# Altium integrated library Silicon Labs Clocks and Oscillators.IntLib: 678 symbols (part 26 of 45)
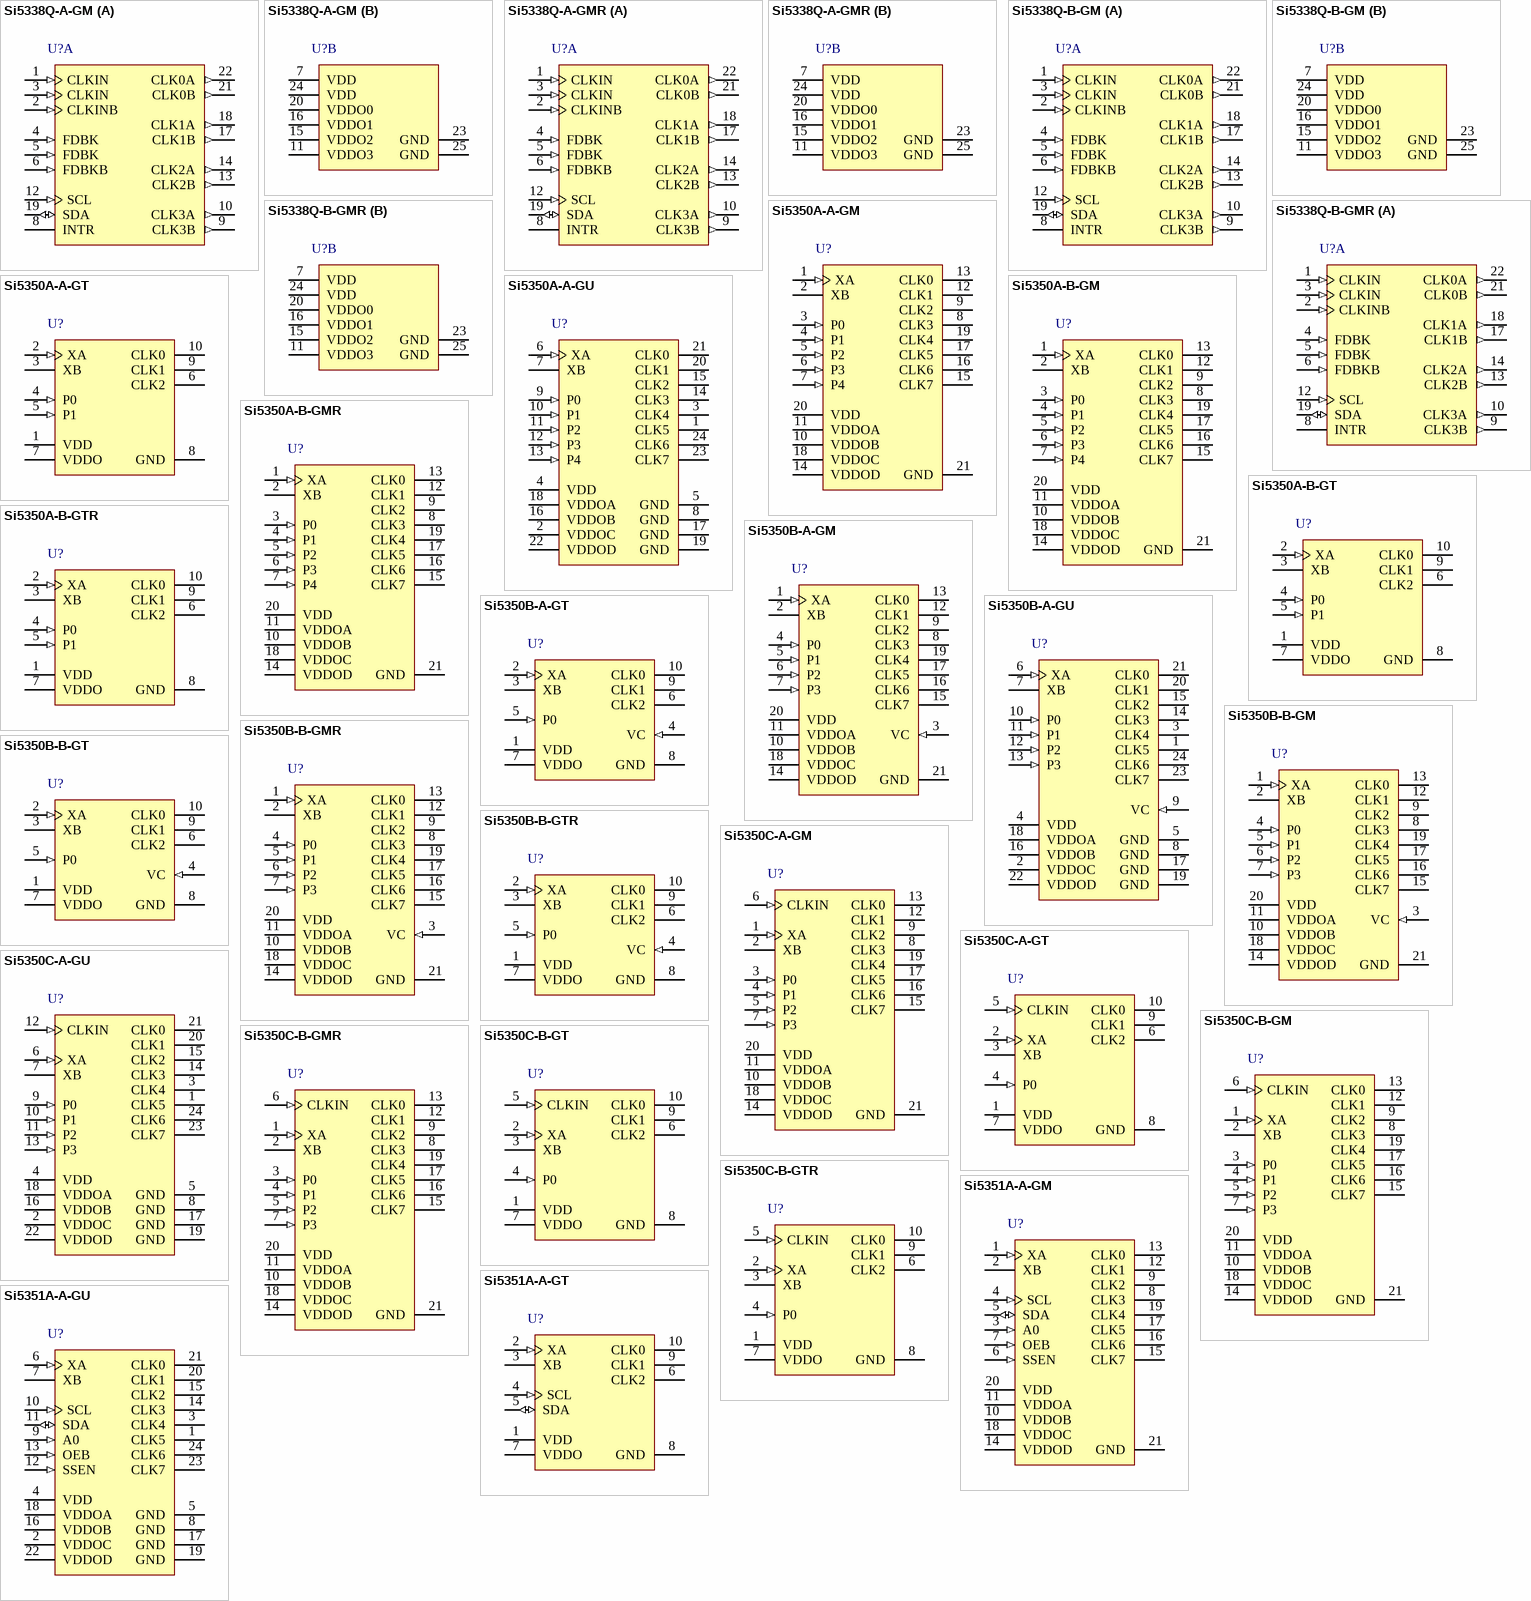
[diagram p69: symbols Si5338Q-A-GM to Si5351A-A-GU]

## Si5350C-A-GT
designator U?
Factory-Programmable Any-Frequency CMOS Clock Generator, 2.5 / 3.3 V, 0.008 to 160 MHz Output, -40 to 85 degC, 10-pin SOP; Manufacturer: Silicon Labs; PartNumber: Si5350C-A-GT; Output Format: LVCMOS; Reference Inputs: 2; VDD: 2.5 V; 3.3 V; Sub-Family: Clock Generators; DatasheetVersion: Rev. 0.9; PackageReference: MSOP-10; PackageDescription: 10-Pin Mini Small Outline Package, Body 3 x 3 mm, Pitch 0.5 mm; Supplier 1: Digi-Key; Supplier Part Number 1: SI5350C-A-GT-ND; Supplier 2: Mouser; Supplier Part Number 2: 634-SI5350C-A-GT; Output Frequency (MHz): 0.008 to 160; Mounting Technology: Surface Mount; Code_JEDEC: MO-187; Code_IPC: J-STD-020; ComponentLink1Description: Manufacturer URL; ComponentLink1URL: http://www.silabs.com/; ComponentLink2Description: Datasheet; ComponentLink2URL: http://www.silabs.com/Support%20Documents/TechnicalDocs/Si5350A.pdf; ComponentLink3Description: Package Specification; ComponentLink3URL: http://www.silabs.com/Support Documents/TechnicalDocs/C8051T60x.pdf
footprint SLAB-MSOP-10_N (SOP, 10-Leads, Body 3x3mm, Pitch 0.5mm, IPC Medium Density)
footprint SLAB-MSOP-10_L (SOP, 10-Leads, Body 3x3mm, Pitch 0.5mm, IPC High Density)
footprint SLAB-MSOP-10_M (SOP, 10-Leads, Body 3x3mm, Pitch 0.5mm, IPC Low Density)
pins: 1 VDD (power) "Core voltage supply pin. See 4.5.2", 2 XA (in) "Input pin for external XTAL", 3 XB "Input pin for external XTAL", 4 P0 (in) "User configurable input pin 0. See 4.5.5", 5 CLKIN (in) "External reference clock input", 6 CLK2 (hiz) "Output clock 2", 7 VDDO (power) "Output voltage supply pin for CLK0, CLK1, and CLK2. See 4.5.2", 8 GND (power) "Ground", 9 CLK1 (hiz) "Output clock 1", 10 CLK0 (hiz) "Output clock 0"

## Si5350C-A-GU
designator U?
Factory-Programmable Any-Frequency CMOS Clock Generator, 2.5 / 3.3 V, 0.008 to 160 MHz Output, -40 to 85 degC, 20-pin SOP; Manufacturer: Silicon Labs; PartNumber: Si5350C-A-GU; Output Format: LVCMOS; Reference Inputs: 2; VDD: 2.5 V; 3.3 V; Sub-Family: Clock Generators; DatasheetVersion: Rev. 0.9; PackageReference: QSOP-24; PackageDescription: 24-Pin Quarter-Size Small-Outline Package, Body 8.65 x 3.9 mm, Pitch 0.635 mm; Supplier 1: Digi-Key; Supplier Part Number 1: SI5350C-A-GU-ND; Supplier 2: Mouser; Supplier Part Number 2: 634-SI5350C-A-GU; Output Frequency (MHz): 0.008 to 160; Mounting Technology: Surface Mount; Code_JEDEC: MO-147; Code_IPC: J-STD-020; ComponentLink1Description: Manufacturer URL; ComponentLink1URL: http://www.silabs.com/; ComponentLink2Description: Datasheet; ComponentLink2URL: http://www.silabs.com/Support%20Documents/TechnicalDocs/Si5350A.pdf; ComponentLink3Description: Package Specification; ComponentLink3URL: http://www.silabs.com/Support%20Documents/TechnicalDocs/C8051F99x.pdf
footprint SLAB-QSOP-24_N (SOP, 24-Leads, Body 8.65x3.9mm, Pitch 0.635mm, IPC Medium Density)
footprint SLAB-QSOP-24_L (SOP, 24-Leads, Body 8.65x3.9mm, Pitch 0.635mm, IPC High Density)
footprint SLAB-QSOP-24_M (SOP, 24-Leads, Body 8.65x3.9mm, Pitch 0.635mm, IPC Low Density)
pins: 1 CLK5 (hiz) "Output clock 5", 2 VDDOC (power) "Output voltage supply pin for CLK4 and CLK5. See 4.5.2", 3 CLK4 (hiz) "Output clock 4", 4 VDD (power) "Core voltage supply pin. See 4.5.2", 5 GND (power) "Ground", 6 XA (in) "Input pin for external XTAL", 7 XB "Input pin for external XTAL", 8 GND (power) "Ground", 9 P0 (in) "User configurable input pin 0. See 4.5.5", 10 P1 (in) "User configurable input pin 1. See 4.5.5", 11 P2 (in) "User configurable input pin 2. See 4.5.5", 12 CLKIN (in) "External reference clock input", 13 P3 (in) "User configurable input pin 3. See 4.5.5", 14 CLK3 (hiz) "Output clock 3", 15 CLK2 (hiz) "Output clock 2", 16 VDDOB (power) "Output voltage supply pin for CLK2 and CLK3. See 4.5.2", 17 GND (power) "Ground", 18 VDDOA (power) "Output voltage supply pin for CLK0 and CLK1. See 4.5.2", 19 GND (power) "Ground", 20 CLK1 (hiz) "Output clock 1", 21 CLK0 (hiz) "Output clock 0", 22 VDDOD (power) "Output voltage supply pin for CLK6 and CLK7. See 4.5.2", 23 CLK7 (hiz) "Output clock 7", 24 CLK6 (hiz) "Output clock 6"

## Si5350C-B-GM
designator U?
Factory-Programmable Any-Frequency CMOS Clock Generator + PLL, 2.5 / 3.3 V, 0.008 to 160 MHz Output, -40 to 85 degC, 20-pin QFN; Manufacturer: Silicon Labs; PartNumber: Si5350C-B-GM; Output Format: LVCMOS; Reference Inputs: 2; VDD: 2.5 V; 3.3 V; Sub-Family: Clock Generators; DatasheetVersion: Rev. 0.75; PackageReference: QFN-20; PackageDescription: 20-Pin Quad-Flat No-Leads Package, Body 4 x 4 mm, Pitch 0.5 mm; Output Frequency (MHz): 0.008 to 160; Mounting Technology: Surface Mount; Code_JEDEC: MO-220; Code_IPC: J-STD-020; ComponentLink1Description: Manufacturer URL; ComponentLink1URL: http://www.silabs.com/; ComponentLink2Description: Datasheet; ComponentLink2URL: http://www.silabs.com/Support%20Documents/TechnicalDocs/Si5350C-B.pdf; ComponentLink3Description: Package Specification; ComponentLink3URL: http://www.silabs.com/Support%20Documents/TechnicalDocs/Si5351.pdf
footprint SLAB-QFN-20-2700x2700TP_A_N (QFN, 20-Leads, Body 4x4mm, Pitch 0.5mm, Thermal Pad 2.7x2.7mm, IPC Medium Density)
footprint SLAB-QFN-20-2700x2700TP_A_L (QFN, 20-Leads, Body 4x4mm, Pitch 0.5mm, Thermal Pad 2.7x2.7mm, IPC High Density)
footprint SLAB-QFN-20-2700x2700TP_A_M (QFN, 20-Leads, Body 4x4mm, Pitch 0.5mm, Thermal Pad 2.7x2.7mm, IPC Low Density)
pins: 1 XA (in) "Input pin for external XTAL", 2 XB "Input pin for external XTAL", 3 P0 (in) "User configurable input pin 0. See 4.5.5", 4 P1 (in) "User configurable input pin 1. See 4.5.5", 5 P2 (in) "User configurable input pin 2. See 4.5.5", 6 CLKIN (in) "External reference clock input", 7 P3 (in) "User configurable input pin 3. See 4.5.5", 8 CLK3 (hiz) "Output clock 3", 9 CLK2 (hiz) "Output clock 2", 10 VDDOB (power) "Output voltage supply pin for CLK2 and CLK3. See 4.5.2", 11 VDDOA (power) "Output voltage supply pin for CLK0 and CLK1. See 4.5.2", 12 CLK1 (hiz) "Output clock 1", 13 CLK0 (hiz) "Output clock 0", 14 VDDOD (power) "Output voltage supply pin for CLK6 and CLK7. See 4.5.2", 15 CLK7 (hiz) "Output clock 7", 16 CLK6 (hiz) "Output clock 6", 17 CLK5 (hiz) "Output clock 5", 18 VDDOC (power) "Output voltage supply pin for CLK4 and CLK5. See 4.5.2", 19 CLK4 (hiz) "Output clock 4", 20 VDD (power) "Core voltage supply pin. See 4.5.2", 21 GND (power) "Ground"

## Si5350C-B-GMR
designator U?
Factory-Programmable Any-Frequency CMOS Clock Generator + PLL, 2.5 / 3.3 V, 0.008 to 160 MHz Output, -40 to 85 degC, 20-pin QFN, Tape and Reel; Manufacturer: Silicon Labs; PartNumber: Si5350C-B-GMR; Output Format: LVCMOS; Phase Jitter (RMS): 100 ps; Reference Inputs: 2; VDD: 2.5 V; 3.3 V; Sub-Family: Clock Generators; DatasheetVersion: Rev. 0.75; PackageReference: QFN-20; PackageDescription: 20-Pin Quad-Flat No-Leads Package, Body 4 x 4 mm, Pitch 0.5 mm; Output Frequency (MHz): 0.008 to 160; Packing: Tape and Reel; Mounting Technology: Surface Mount; Code_JEDEC: MO-220; Code_IPC: J-STD-020; ComponentLink1Description: Manufacturer URL; ComponentLink1URL: http://www.silabs.com/; ComponentLink2Description: Datasheet; ComponentLink2URL: http://www.silabs.com/Support%20Documents/TechnicalDocs/Si5350C-B.pdf; ComponentLink3Description: Package Specification; ComponentLink3URL: http://www.silabs.com/Support%20Documents/TechnicalDocs/Si5351.pdf
footprint SLAB-QFN-20-2700x2700TP_A_N (QFN, 20-Leads, Body 4x4mm, Pitch 0.5mm, Thermal Pad 2.7x2.7mm, IPC Medium Density)
footprint SLAB-QFN-20-2700x2700TP_A_L (QFN, 20-Leads, Body 4x4mm, Pitch 0.5mm, Thermal Pad 2.7x2.7mm, IPC High Density)
footprint SLAB-QFN-20-2700x2700TP_A_M (QFN, 20-Leads, Body 4x4mm, Pitch 0.5mm, Thermal Pad 2.7x2.7mm, IPC Low Density)
pins: 1 XA (in) "Input pin for external XTAL", 2 XB "Input pin for external XTAL", 3 P0 (in) "User configurable input pin 0. See 4.5.5", 4 P1 (in) "User configurable input pin 1. See 4.5.5", 5 P2 (in) "User configurable input pin 2. See 4.5.5", 6 CLKIN (in) "External reference clock input", 7 P3 (in) "User configurable input pin 3. See 4.5.5", 8 CLK3 (hiz) "Output clock 3", 9 CLK2 (hiz) "Output clock 2", 10 VDDOB (power) "Output voltage supply pin for CLK2 and CLK3. See 4.5.2", 11 VDDOA (power) "Output voltage supply pin for CLK0 and CLK1. See 4.5.2", 12 CLK1 (hiz) "Output clock 1", 13 CLK0 (hiz) "Output clock 0", 14 VDDOD (power) "Output voltage supply pin for CLK6 and CLK7. See 4.5.2", 15 CLK7 (hiz) "Output clock 7", 16 CLK6 (hiz) "Output clock 6", 17 CLK5 (hiz) "Output clock 5", 18 VDDOC (power) "Output voltage supply pin for CLK4 and CLK5. See 4.5.2", 19 CLK4 (hiz) "Output clock 4", 20 VDD (power) "Core voltage supply pin. See 4.5.2", 21 GND (power) "Ground"

## Si5350C-B-GT
designator U?
Factory-Programmable Any-Frequency CMOS Clock Generator + PLL, 2.5 / 3.3 V, 0.008 to 160 MHz Output, -40 to 85 degC, 10-pin SOP; Manufacturer: Silicon Labs; PartNumber: Si5350C-B-GT; Output Format: LVCMOS; Reference Inputs: 2; VDD: 2.5 V; 3.3 V; Sub-Family: Clock Generators; DatasheetVersion: Rev. 0.75; PackageReference: MSOP-10; PackageDescription: 10-Pin Mini Small Outline Package, Body 3 x 3 mm, Pitch 0.5 mm; Output Frequency (MHz): 0.008 to 160; Mounting Technology: Surface Mount; Code_JEDEC: MO-187; Code_IPC: J-STD-020; ComponentLink1Description: Manufacturer URL; ComponentLink1URL: http://www.silabs.com/; ComponentLink2Description: Datasheet; ComponentLink2URL: http://www.silabs.com/Support%20Documents/TechnicalDocs/Si5350C-B.pdf; ComponentLink3Description: Package Specification; ComponentLink3URL: http://www.silabs.com/Support Documents/TechnicalDocs/C8051T60x.pdf
footprint SLAB-MSOP-10_N (SOP, 10-Leads, Body 3x3mm, Pitch 0.5mm, IPC Medium Density)
footprint SLAB-MSOP-10_L (SOP, 10-Leads, Body 3x3mm, Pitch 0.5mm, IPC High Density)
footprint SLAB-MSOP-10_M (SOP, 10-Leads, Body 3x3mm, Pitch 0.5mm, IPC Low Density)
pins: 1 VDD (power) "Core voltage supply pin. See 4.5.2", 2 XA (in) "Input pin for external XTAL", 3 XB "Input pin for external XTAL", 4 P0 (in) "User configurable input pin 0. See 4.5.5", 5 CLKIN (in) "External reference clock input", 6 CLK2 (hiz) "Output clock 2", 7 VDDO (power) "Output voltage supply pin for CLK0, CLK1, and CLK2. See 4.5.2", 8 GND (power) "Ground", 9 CLK1 (hiz) "Output clock 1", 10 CLK0 (hiz) "Output clock 0"

## Si5350C-B-GTR
designator U?
Factory-Programmable Any-Frequency CMOS Clock Generator + PLL, 2.5 / 3.3 V, 0.008 to 160 MHz Output, -40 to 85 degC, 10-pin SOP, Tape and Reel; Manufacturer: Silicon Labs; PartNumber: Si5350C-B-GTR; Output Format: LVCMOS; Phase Jitter (RMS): 100 ps; Reference Inputs: 2; VDD: 2.5 V; 3.3 V; Sub-Family: Clock Generators; DatasheetVersion: Rev. 0.75; PackageReference: MSOP-10; PackageDescription: 10-Pin Mini Small Outline Package, Body 3 x 3 mm, Pitch 0.5 mm; Output Frequency (MHz): 0.008 to 160; Packing: Tape and Reel; Mounting Technology: Surface Mount; Code_JEDEC: MO-187; Code_IPC: J-STD-020; ComponentLink1Description: Manufacturer URL; ComponentLink1URL: http://www.silabs.com/; ComponentLink2Description: Datasheet; ComponentLink2URL: http://www.silabs.com/Support%20Documents/TechnicalDocs/Si5350C-B.pdf; ComponentLink3Description: Package Specification; ComponentLink3URL: http://www.silabs.com/Support Documents/TechnicalDocs/C8051T60x.pdf
footprint SLAB-MSOP-10_N (SOP, 10-Leads, Body 3x3mm, Pitch 0.5mm, IPC Medium Density)
footprint SLAB-MSOP-10_L (SOP, 10-Leads, Body 3x3mm, Pitch 0.5mm, IPC High Density)
footprint SLAB-MSOP-10_M (SOP, 10-Leads, Body 3x3mm, Pitch 0.5mm, IPC Low Density)
pins: 1 VDD (power) "Core voltage supply pin. See 4.5.2", 2 XA (in) "Input pin for external XTAL", 3 XB "Input pin for external XTAL", 4 P0 (in) "User configurable input pin 0. See 4.5.5", 5 CLKIN (in) "External reference clock input", 6 CLK2 (hiz) "Output clock 2", 7 VDDO (power) "Output voltage supply pin for CLK0, CLK1, and CLK2. See 4.5.2", 8 GND (power) "Ground", 9 CLK1 (hiz) "Output clock 1", 10 CLK0 (hiz) "Output clock 0"

## Si5351A-A-GM
designator U?
I2C-Programmable Any-Frequency CMOS Clock Generator + VCXO, 2.5 / 3.3 V, 0.008 to 160 MHz Output, -40 to 85 degC, 20-pin QFN; Manufacturer: Silicon Labs; PartNumber: Si5351A-A-GM; Output Format: LVCMOS; Reference Inputs: 1; VDD: 2.5 V; 3.3 V; Sub-Family: Clock Generators; DatasheetVersion: Rev. 0.95; PackageReference: QFN-20; PackageDescription: 20-Pin Quad-Flat No-Leads Package, Body 4 x 4 mm, Pitch 0.5 mm; Supplier 1: Digi-Key; Supplier Part Number 1: 336-1993-5-ND; Supplier 2: Mouser; Supplier Part Number 2: 634-SI5351A-A-GM; Output Frequency (MHz): 0.008 to 160; Mounting Technology: Surface Mount; Code_JEDEC: MO-220; Code_IPC: J-STD-020; ComponentLink1Description: Manufacturer URL; ComponentLink1URL: http://www.silabs.com/; ComponentLink2Description: Datasheet; ComponentLink2URL: http://www.silabs.com/Support%20Documents/TechnicalDocs/Si5351.pdf; ComponentLink3Description: Package Specification; ComponentLink3URL: http://www.silabs.com/Support%20Documents/TechnicalDocs/Si5351.pdf
footprint SLAB-QFN-20-2700x2700TP_A_N (QFN, 20-Leads, Body 4x4mm, Pitch 0.5mm, Thermal Pad 2.7x2.7mm, IPC Medium Density)
footprint SLAB-QFN-20-2700x2700TP_A_L (QFN, 20-Leads, Body 4x4mm, Pitch 0.5mm, Thermal Pad 2.7x2.7mm, IPC High Density)
footprint SLAB-QFN-20-2700x2700TP_A_M (QFN, 20-Leads, Body 4x4mm, Pitch 0.5mm, Thermal Pad 2.7x2.7mm, IPC Low Density)
pins: 1 XA (in) "Input pin for external crystal.", 2 XB "Input pin for external crystal.", 3 A0 (in) "I2C address bit.", 4 SCL (in) "I2C bus serial clock input. Pull-up to VDD core with 1 k ohm.", 5 SDA (io) "I2C bus serial data input. Pull-up to VDD core with 1 k ohm.", 6 SSEN (in) "Spread spectrum enable. High = enabled, Low = disabled.", 7 OEB (in) "Output driver enable. Low = enabled, High = disabled.", 8 CLK3 (hiz) "Output clock 3.", 9 CLK2 (hiz) "Output clock 2.", 10 VDDOB (power) "Output voltage supply pin for CLK2 and CLK3. See 6.2.", 11 VDDOA (power) "Output voltage supply pin for CLK0 and CLK1. See 6.2.", 12 CLK1 (hiz) "Output clock 1.", 13 CLK0 (hiz) "Output clock 0.", 14 VDDOD (power) "Output voltage supply pin for CLK6 and CLK7. See 6.2.", 15 CLK7 (hiz) "Output clock 7.", 16 CLK6 (hiz) "Output clock 6.", 17 CLK5 (hiz) "Output clock 5.", 18 VDDOC (power) "Output voltage supply pin for CLK4 and CLK5. See 6.2.", 19 CLK4 (hiz) "Output clock 4.", 20 VDD (power) "Core voltage supply pin. See 6.2.", 21 GND (power) "Ground. Use multiple vias to ensure a solid path to GND."

## Si5351A-A-GT
designator U?
I2C-Programmable Any-Frequency CMOS Clock Generator + VCXO, 2.5 / 3.3 V, 0.008 to 160 MHz Output, -40 to 85 degC, 10-pin SOP; Manufacturer: Silicon Labs; PartNumber: Si5351A-A-GT; Output Format: LVCMOS; Reference Inputs: 1; VDD: 2.5 V; 3.3 V; Sub-Family: Clock Generators; DatasheetVersion: Rev. 0.95; PackageReference: MSOP-10; PackageDescription: 10-Pin Mini Small Outline Package, Body 3 x 3 mm, Pitch 0.5 mm; Supplier 1: Digi-Key; Supplier Part Number 1: 336-1994-5-ND; Supplier 2: Mouser; Supplier Part Number 2: 634-SI5351A-A-GT; Output Frequency (MHz): 0.008 to 160; Mounting Technology: Surface Mount; Code_JEDEC: MO-187; Code_IPC: J-STD-020; ComponentLink1Description: Manufacturer URL; ComponentLink1URL: http://www.silabs.com/; ComponentLink2Description: Datasheet; ComponentLink2URL: http://www.silabs.com/Support%20Documents/TechnicalDocs/Si5351.pdf; ComponentLink3Description: Package Specification; ComponentLink3URL: http://www.silabs.com/Support Documents/TechnicalDocs/C8051T60x.pdf
footprint SLAB-MSOP-10_N (SOP, 10-Leads, Body 3x3mm, Pitch 0.5mm, IPC Medium Density)
footprint SLAB-MSOP-10_L (SOP, 10-Leads, Body 3x3mm, Pitch 0.5mm, IPC High Density)
footprint SLAB-MSOP-10_M (SOP, 10-Leads, Body 3x3mm, Pitch 0.5mm, IPC Low Density)
pins: 1 VDD (power) "Core voltage supply pin.", 2 XA (in) "Input pin for external crystal.", 3 XB "Input pin for external crystal.", 4 SCL (in) "Serial clock input for the I2C bus. This pin must be pulled-up using a pull-up resistor of at least 1 k ohm.", 5 SDA (io) "Serial data input for the I2C bus. This pin must be pulled-up using a pull-up resistor of at least 1 k ohm.", 6 CLK2 (hiz) "Output clock 2.", 7 VDDO (power) "Output voltage supply pin for CLK0, CLK1, and CLK2.", 8 GND (power) "Ground.", 9 CLK1 (hiz) "Output clock 1.", 10 CLK0 (hiz) "Output clock 0."

## Si5351A-A-GU
designator U?
I2C-Programmable Any-Frequency CMOS Clock Generator + VCXO, 2.5 / 3.3 V, 0.008 to 160 MHz Output, -40 to 85 degC, 24-pin SOP; Manufacturer: Silicon Labs; PartNumber: Si5351A-A-GU; Output Format: LVCMOS; Reference Inputs: 1; VDD: 2.5 V; 3.3 V; Sub-Family: Clock Generators; DatasheetVersion: Rev. 0.95; PackageReference: QSOP-24; PackageDescription: 24-Pin Quarter-Size Small-Outline Package, Body 8.65 x 3.9 mm, Pitch 0.635 mm; Supplier 1: Digi-Key; Supplier Part Number 1: 336-1995-5-ND; Supplier 2: Mouser; Supplier Part Number 2: 634-SI5351A-A-GU; Output Frequency (MHz): 0.008 to 160; Mounting Technology: Surface Mount; Code_JEDEC: MO-147; Code_IPC: J-STD-020; ComponentLink1Description: Manufacturer URL; ComponentLink1URL: http://www.silabs.com/; ComponentLink2Description: Datasheet; ComponentLink2URL: http://www.silabs.com/Support%20Documents/TechnicalDocs/Si5351.pdf; ComponentLink3Description: Package Specification; ComponentLink3URL: http://www.silabs.com/Support%20Documents/TechnicalDocs/C8051F99x.pdf
footprint SLAB-QSOP-24_N (SOP, 24-Leads, Body 8.65x3.9mm, Pitch 0.635mm, IPC Medium Density)
footprint SLAB-QSOP-24_L (SOP, 24-Leads, Body 8.65x3.9mm, Pitch 0.635mm, IPC High Density)
footprint SLAB-QSOP-24_M (SOP, 24-Leads, Body 8.65x3.9mm, Pitch 0.635mm, IPC Low Density)
pins: 1 CLK5 (hiz) "Output clock 5.", 2 VDDOC (power) "Output voltage supply pin for CLK4 and CLK5. See 6.2.", 3 CLK4 (hiz) "Output clock 4.", 4 VDD (power) "Core voltage supply pin. See 6.2.", 5 GND (power) "Ground. Use multiple vias to ensure a solid path to GND.", 6 XA (in) "Input pin for external crystal.", 7 XB "Input pin for external crystal.", 8 GND (power) "Ground. Use multiple vias to ensure a solid path to GND.", 9 A0 (in) "I2C address bit.", 10 SCL (in) "I2C bus serial clock input. Pull-up to VDD core with 1 k ohm.", 11 SDA (io) "I2C bus serial data input. Pull-up to VDD core with 1 k ohm.", 12 SSEN (in) "Spread spectrum enable. High = enabled, Low = disabled.", 13 OEB (in) "Output driver enable. Low = enabled, High = disabled.", 14 CLK3 (hiz) "Output clock 3.", 15 CLK2 (hiz) "Output clock 2.", 16 VDDOB (power) "Output voltage supply pin for CLK2 and CLK3. See 6.2.", 17 GND (power) "Ground. Use multiple vias to ensure a solid path to GND.", 18 VDDOA (power) "Output voltage supply pin for CLK0 and CLK1. See 6.2.", 19 GND (power) "Ground. Use multiple vias to ensure a solid path to GND.", 20 CLK1 (hiz) "Output clock 1.", 21 CLK0 (hiz) "Output clock 0.", 22 VDDOD (power) "Output voltage supply pin for CLK6 and CLK7. See 6.2.", 23 CLK7 (hiz) "Output clock 7.", 24 CLK6 (hiz) "Output clock 6."

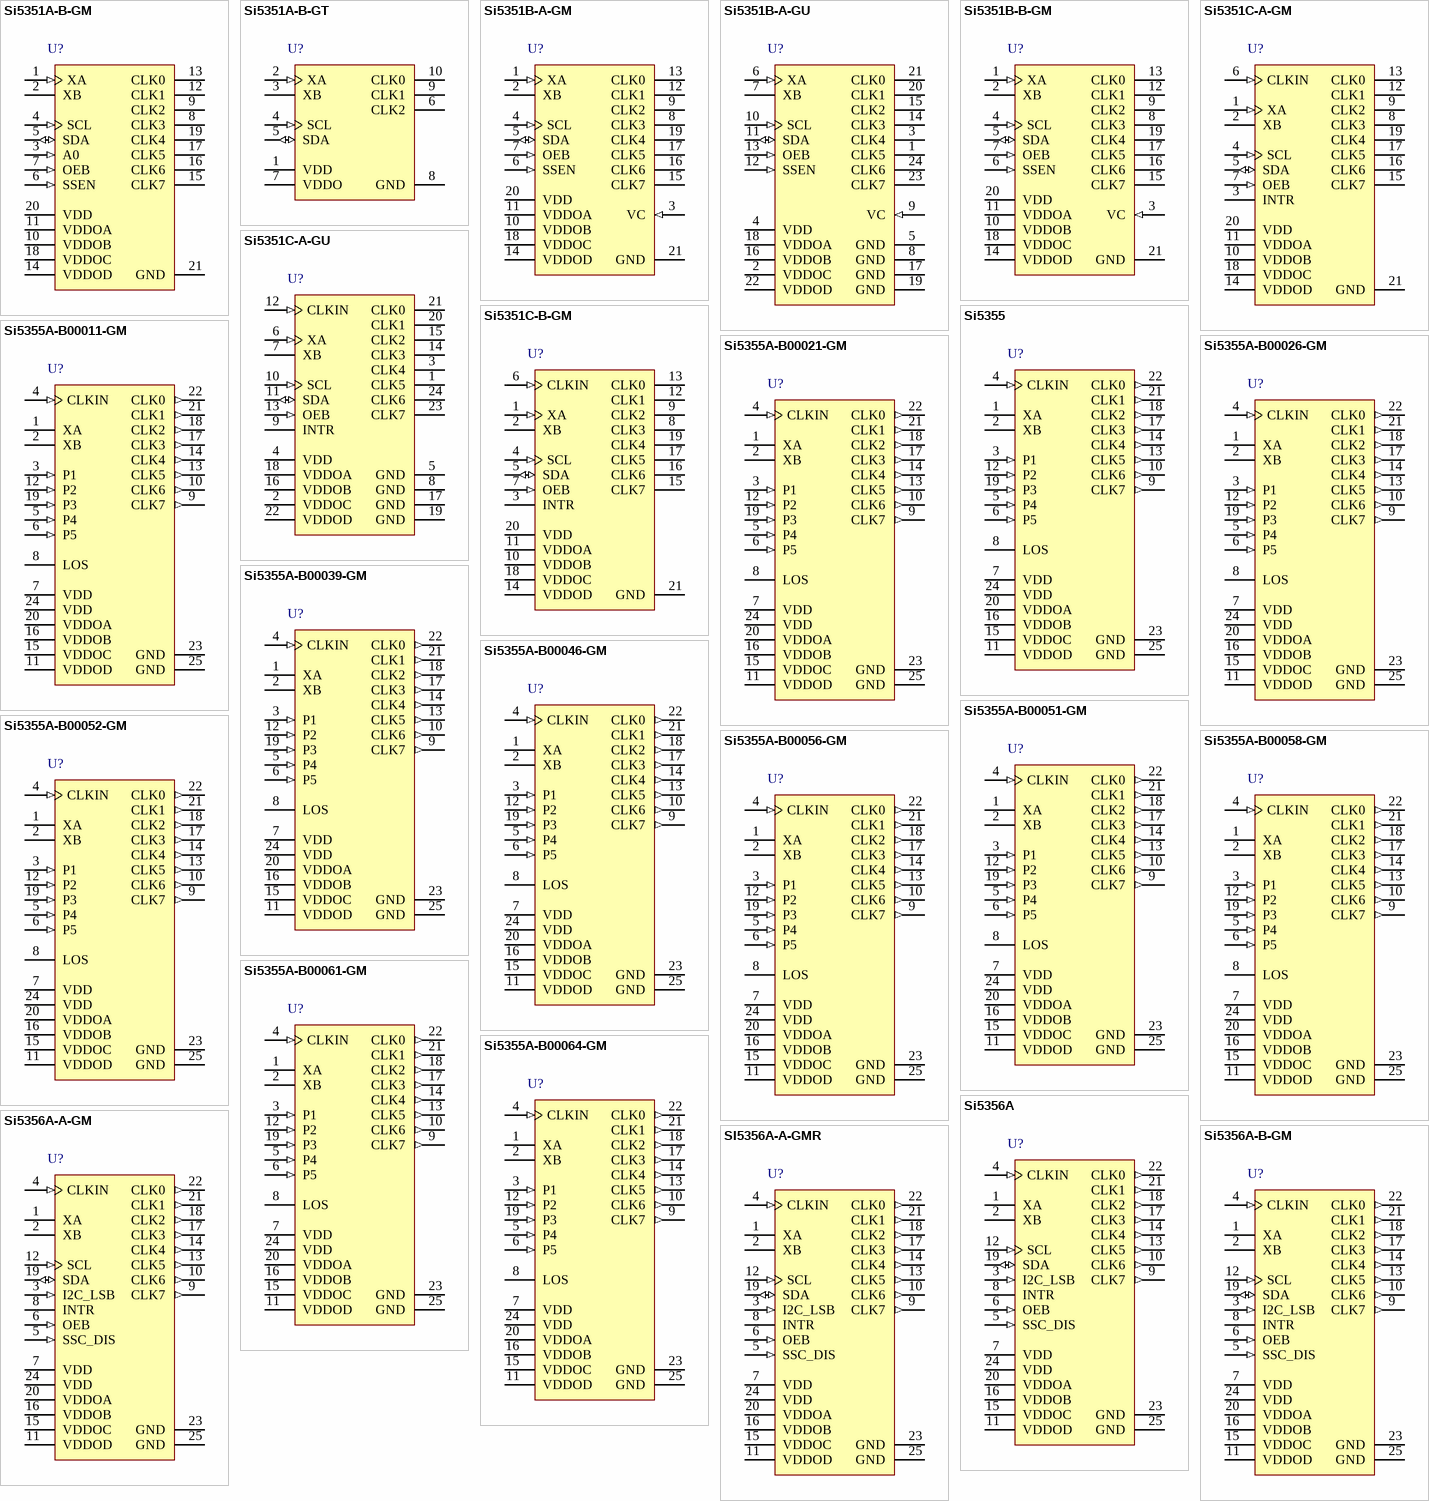
[diagram p26: symbols Si5351A-B-GM to Si5356A-B-GM]

## Si5351A-B-GM
designator U?
I2C-Programmable Any-Frequency CMOS Clock Generator + VCXO, 2.5 / 3.3 V, 0.008 to 160 MHz Output, -40 to 85 degC, 20-pin QFN; Manufacturer: Silicon Labs; PartNumber: Si5351A-B-GM; Output Format: LVCMOS; Reference Inputs: 1; VDD: 2.5 V; 3.3 V; Sub-Family: Clock Generators; DatasheetVersion: Rev. 0.95; PackageReference: QFN-20; PackageDescription: 20-Pin Quad-Flat No-Leads Package, Body 4 x 4 mm, Pitch 0.5 mm; Supplier 1: Digi-Key; Supplier Part Number 1: 336-2400-5-ND; Supplier 2: Mouser; Supplier Part Number 2: 634-SI5351A-B-GM; Output Frequency (MHz): 0.008 to 160; Mounting Technology: Surface Mount; Code_JEDEC: MO-220; Code_IPC: J-STD-020; ComponentLink1Description: Manufacturer URL; ComponentLink1URL: http://www.silabs.com/; ComponentLink2Description: Datasheet; ComponentLink2URL: http://www.silabs.com/Support%20Documents/TechnicalDocs/Si5351.pdf; ComponentLink3Description: Package Specification; ComponentLink3URL: http://www.silabs.com/Support%20Documents/TechnicalDocs/Si5351.pdf
footprint SLAB-QFN-20-2700x2700TP_A_N (QFN, 20-Leads, Body 4x4mm, Pitch 0.5mm, Thermal Pad 2.7x2.7mm, IPC Medium Density)
footprint SLAB-QFN-20-2700x2700TP_A_L (QFN, 20-Leads, Body 4x4mm, Pitch 0.5mm, Thermal Pad 2.7x2.7mm, IPC High Density)
footprint SLAB-QFN-20-2700x2700TP_A_M (QFN, 20-Leads, Body 4x4mm, Pitch 0.5mm, Thermal Pad 2.7x2.7mm, IPC Low Density)
pins: 1 XA (in) "Input pin for external crystal.", 2 XB "Input pin for external crystal.", 3 A0 (in) "I2C address bit.", 4 SCL (in) "I2C bus serial clock input. Pull-up to VDD core with 1 k ohm.", 5 SDA (io) "I2C bus serial data input. Pull-up to VDD core with 1 k ohm.", 6 SSEN (in) "Spread spectrum enable. High = enabled, Low = disabled.", 7 OEB (in) "Output driver enable. Low = enabled, High = disabled.", 8 CLK3 (hiz) "Output clock 3.", 9 CLK2 (hiz) "Output clock 2.", 10 VDDOB (power) "Output voltage supply pin for CLK2 and CLK3. See 6.2.", 11 VDDOA (power) "Output voltage supply pin for CLK0 and CLK1. See 6.2.", 12 CLK1 (hiz) "Output clock 1.", 13 CLK0 (hiz) "Output clock 0.", 14 VDDOD (power) "Output voltage supply pin for CLK6 and CLK7. See 6.2.", 15 CLK7 (hiz) "Output clock 7.", 16 CLK6 (hiz) "Output clock 6.", 17 CLK5 (hiz) "Output clock 5.", 18 VDDOC (power) "Output voltage supply pin for CLK4 and CLK5. See 6.2.", 19 CLK4 (hiz) "Output clock 4.", 20 VDD (power) "Core voltage supply pin. See 6.2.", 21 GND (power) "Ground. Use multiple vias to ensure a solid path to GND."

## Si5351A-B-GT
designator U?
I2C-Programmable Any-Frequency CMOS Clock Generator + VCXO, 2.5 / 3.3 V, 0.008 to 160 MHz Output, -40 to 85 degC, 10-pin SOP; Manufacturer: Silicon Labs; PartNumber: Si5351A-B-GT; Output Format: LVCMOS; Reference Inputs: 1; VDD: 2.5 V; 3.3 V; Sub-Family: Clock Generators; DatasheetVersion: Rev. 0.95; PackageReference: MSOP-10; PackageDescription: 10-Pin Mini Small Outline Package, Body 3 x 3 mm, Pitch 0.5 mm; Supplier 1: Digi-Key; Supplier Part Number 1: 336-2399-5-ND; Supplier 2: Mouser; Supplier Part Number 2: 634-SI5351A-B-GT; Output Frequency (MHz): 0.008 to 160; Mounting Technology: Surface Mount; Code_JEDEC: MO-187; Code_IPC: J-STD-020; ComponentLink1Description: Manufacturer URL; ComponentLink1URL: http://www.silabs.com/; ComponentLink2Description: Datasheet; ComponentLink2URL: http://www.silabs.com/Support%20Documents/TechnicalDocs/Si5351.pdf; ComponentLink3Description: Package Specification; ComponentLink3URL: http://www.silabs.com/Support Documents/TechnicalDocs/C8051T60x.pdf
footprint SLAB-MSOP-10_N (SOP, 10-Leads, Body 3x3mm, Pitch 0.5mm, IPC Medium Density)
footprint SLAB-MSOP-10_L (SOP, 10-Leads, Body 3x3mm, Pitch 0.5mm, IPC High Density)
footprint SLAB-MSOP-10_M (SOP, 10-Leads, Body 3x3mm, Pitch 0.5mm, IPC Low Density)
pins: 1 VDD (power) "Core voltage supply pin.", 2 XA (in) "Input pin for external crystal.", 3 XB "Input pin for external crystal.", 4 SCL (in) "Serial clock input for the I2C bus. This pin must be pulled-up using a pull-up resistor of at least 1 k ohm.", 5 SDA (io) "Serial data input for the I2C bus. This pin must be pulled-up using a pull-up resistor of at least 1 k ohm.", 6 CLK2 (hiz) "Output clock 2.", 7 VDDO (power) "Output voltage supply pin for CLK0, CLK1, and CLK2.", 8 GND (power) "Ground.", 9 CLK1 (hiz) "Output clock 1.", 10 CLK0 (hiz) "Output clock 0."

## Si5351B-A-GM
designator U?
I2C-Programmable Any-Frequency CMOS Clock Generator + VCXO, 2.5 / 3.3 V, 0.008 to 160 MHz Output, -40 to 85 degC, 20-pin QFN; Manufacturer: Silicon Labs; PartNumber: Si5351B-A-GM; Output Format: LVCMOS; Reference Inputs: 1; VDD: 2.5 V; 3.3 V; Sub-Family: Clock Generators; DatasheetVersion: Rev. 0.95; PackageReference: QFN-20; PackageDescription: 20-Pin Quad-Flat No-Leads Package, Body 4 x 4 mm, Pitch 0.5 mm; Supplier 1: Digi-Key; Supplier Part Number 1: SI5351B-A-GM-ND; Supplier 2: Mouser; Supplier Part Number 2: 634-SI5351B-A-GM; Output Frequency (MHz): 0.008 to 160; Mounting Technology: Surface Mount; Code_JEDEC: MO-220; Code_IPC: J-STD-020; ComponentLink1Description: Manufacturer URL; ComponentLink1URL: http://www.silabs.com/; ComponentLink2Description: Datasheet; ComponentLink2URL: http://www.silabs.com/Support%20Documents/TechnicalDocs/Si5351.pdf; ComponentLink3Description: Package Specification; ComponentLink3URL: http://www.silabs.com/Support%20Documents/TechnicalDocs/Si5351.pdf
footprint SLAB-QFN-20-2700x2700TP_A_N (QFN, 20-Leads, Body 4x4mm, Pitch 0.5mm, Thermal Pad 2.7x2.7mm, IPC Medium Density)
footprint SLAB-QFN-20-2700x2700TP_A_L (QFN, 20-Leads, Body 4x4mm, Pitch 0.5mm, Thermal Pad 2.7x2.7mm, IPC High Density)
footprint SLAB-QFN-20-2700x2700TP_A_M (QFN, 20-Leads, Body 4x4mm, Pitch 0.5mm, Thermal Pad 2.7x2.7mm, IPC Low Density)
pins: 1 XA (in) "Input pin for external crystal", 2 XB "Input pin for external crystal", 3 VC (in) "VCXO control voltage input", 4 SCL (in) "I2C bus serial clock input. Pull-up to VDD core with 1 k ohm.", 5 SDA (io) "I2C bus serial data input. Pull-up to VDD core with 1 k ohm.", 6 SSEN (in) "Spread spectrum enable. High = enabled, Low = disabled.", 7 OEB (in) "Output driver enable. Low = enabled, High = disabled.", 8 CLK3 (hiz) "Output clock 3", 9 CLK2 (hiz) "Output clock 2", 10 VDDOB (power) "Output voltage supply pin for CLK2 and CLK3. See 6.2", 11 VDDOA (power) "Output voltage supply pin for CLK0 and CLK1. See 6.2", 12 CLK1 (hiz) "Output clock 1", 13 CLK0 (hiz) "Output clock 0", 14 VDDOD (power) "Output voltage supply pin for CLK6 and CLK7. See 6.2", 15 CLK7 (hiz) "Output clock 7", 16 CLK6 (hiz) "Output clock 6", 17 CLK5 (hiz) "Output clock 5", 18 VDDOC (power) "Output voltage supply pin for CLK4 and CLK5. See 6.2", 19 CLK4 (hiz) "Output clock 4", 20 VDD (power) "Core voltage supply pin", 21 GND (power) "Ground"

## Si5351B-A-GU
designator U?
I2C-Programmable Any-Frequency CMOS Clock Generator + VCXO, 2.5 / 3.3 V, 0.008 to 160 MHz Output, -40 to 85 degC, 24-pin SOP; Manufacturer: Silicon Labs; PartNumber: Si5351B-A-GU; Output Format: LVCMOS; Reference Inputs: 1; VDD: 2.5 V; 3.3 V; Sub-Family: Clock Generators; DatasheetVersion: Rev. 0.95; PackageReference: QSOP-24; PackageDescription: 24-Pin Quarter-Size Small-Outline Package, Body 8.65 x 3.9 mm, Pitch 0.635 mm; Supplier 1: Digi-Key; Supplier Part Number 1: SI5351B-A-GU-ND; Supplier 2: Mouser; Supplier Part Number 2: 634-SI5351B-A-GU; Output Frequency (MHz): 0.008 to 160; Mounting Technology: Surface Mount; Code_JEDEC: MO-147; Code_IPC: J-STD-020; ComponentLink1Description: Manufacturer URL; ComponentLink1URL: http://www.silabs.com/; ComponentLink2Description: Datasheet; ComponentLink2URL: http://www.silabs.com/Support%20Documents/TechnicalDocs/Si5351.pdf; ComponentLink3Description: Package Specification; ComponentLink3URL: http://www.silabs.com/Support%20Documents/TechnicalDocs/C8051F99x.pdf
footprint SLAB-QSOP-24_N (SOP, 24-Leads, Body 8.65x3.9mm, Pitch 0.635mm, IPC Medium Density)
footprint SLAB-QSOP-24_L (SOP, 24-Leads, Body 8.65x3.9mm, Pitch 0.635mm, IPC High Density)
footprint SLAB-QSOP-24_M (SOP, 24-Leads, Body 8.65x3.9mm, Pitch 0.635mm, IPC Low Density)
pins: 1 CLK5 (hiz) "Output clock 5", 2 VDDOC (power) "Output voltage supply pin for CLK4 and CLK5. See 6.2", 3 CLK4 (hiz) "Output clock 4", 4 VDD (power) "Core voltage supply pin", 5 GND (power) "Ground", 6 XA (in) "Input pin for external crystal", 7 XB "Input pin for external crystal", 8 GND (power) "Ground", 9 VC (in) "VCXO control voltage input", 10 SCL (in) "I2C bus serial clock input. Pull-up to VDD core with 1 k ohm.", 11 SDA (io) "I2C bus serial data input. Pull-up to VDD core with 1 k ohm.", 12 SSEN (in) "Spread spectrum enable. High = enabled, Low = disabled.", 13 OEB (in) "Output driver enable. Low = enabled, High = disabled.", 14 CLK3 (hiz) "Output clock 3", 15 CLK2 (hiz) "Output clock 2", 16 VDDOB (power) "Output voltage supply pin for CLK2 and CLK3. See 6.2", 17 GND (power) "Ground", 18 VDDOA (power) "Output voltage supply pin for CLK0 and CLK1. See 6.2", 19 GND (power) "Ground", 20 CLK1 (hiz) "Output clock 1", 21 CLK0 (hiz) "Output clock 0", 22 VDDOD (power) "Output voltage supply pin for CLK6 and CLK7. See 6.2", 23 CLK7 (hiz) "Output clock 7", 24 CLK6 (hiz) "Output clock 6"

## Si5351B-B-GM
designator U?
I2C-Programmable Any-Frequency CMOS Clock Generator + VCXO, 2.5 / 3.3 V, 0.008 to 160 MHz Output, -40 to 85 degC, 20-pin QFN; Manufacturer: Silicon Labs; PartNumber: Si5351B-B-GM; Output Format: LVCMOS; Reference Inputs: 1; VDD: 2.5 V; 3.3 V; Sub-Family: Clock Generators; DatasheetVersion: Rev. 0.95; PackageReference: QFN-20; PackageDescription: 20-Pin Quad-Flat No-Leads Package, Body 4 x 4 mm, Pitch 0.5 mm; Supplier 1: Digi-Key; Supplier Part Number 1: 336-2401-5-ND; Supplier 2: Mouser; Supplier Part Number 2: 634-SI5351B-B-GM; Output Frequency (MHz): 0.008 to 160; Mounting Technology: Surface Mount; Code_JEDEC: MO-220; Code_IPC: J-STD-020; ComponentLink1Description: Manufacturer URL; ComponentLink1URL: http://www.silabs.com/; ComponentLink2Description: Datasheet; ComponentLink2URL: http://www.silabs.com/Support%20Documents/TechnicalDocs/Si5351.pdf; ComponentLink3Description: Package Specification; ComponentLink3URL: http://www.silabs.com/Support%20Documents/TechnicalDocs/Si5351.pdf
footprint SLAB-QFN-20-2700x2700TP_A_N (QFN, 20-Leads, Body 4x4mm, Pitch 0.5mm, Thermal Pad 2.7x2.7mm, IPC Medium Density)
footprint SLAB-QFN-20-2700x2700TP_A_L (QFN, 20-Leads, Body 4x4mm, Pitch 0.5mm, Thermal Pad 2.7x2.7mm, IPC High Density)
footprint SLAB-QFN-20-2700x2700TP_A_M (QFN, 20-Leads, Body 4x4mm, Pitch 0.5mm, Thermal Pad 2.7x2.7mm, IPC Low Density)
pins: 1 XA (in) "Input pin for external crystal", 2 XB "Input pin for external crystal", 3 VC (in) "VCXO control voltage input", 4 SCL (in) "I2C bus serial clock input. Pull-up to VDD core with 1 k ohm.", 5 SDA (io) "I2C bus serial data input. Pull-up to VDD core with 1 k ohm.", 6 SSEN (in) "Spread spectrum enable. High = enabled, Low = disabled.", 7 OEB (in) "Output driver enable. Low = enabled, High = disabled.", 8 CLK3 (hiz) "Output clock 3", 9 CLK2 (hiz) "Output clock 2", 10 VDDOB (power) "Output voltage supply pin for CLK2 and CLK3. See 6.2", 11 VDDOA (power) "Output voltage supply pin for CLK0 and CLK1. See 6.2", 12 CLK1 (hiz) "Output clock 1", 13 CLK0 (hiz) "Output clock 0", 14 VDDOD (power) "Output voltage supply pin for CLK6 and CLK7. See 6.2", 15 CLK7 (hiz) "Output clock 7", 16 CLK6 (hiz) "Output clock 6", 17 CLK5 (hiz) "Output clock 5", 18 VDDOC (power) "Output voltage supply pin for CLK4 and CLK5. See 6.2", 19 CLK4 (hiz) "Output clock 4", 20 VDD (power) "Core voltage supply pin", 21 GND (power) "Ground"

## Si5351C-A-GM
designator U?
I2C-Programmable Any-Frequency CMOS Clock Generator + VCXO, 2.5 / 3.3 V, 0.008 to 160 MHz Output, -40 to 85 degC, 20-pin QFN; Manufacturer: Silicon Labs; PartNumber: Si5351C-A-GM; Output Format: LVCMOS; Reference Inputs: 2; VDD: 2.5 V; 3.3 V; Sub-Family: Clock Generators; DatasheetVersion: Rev. 0.95; PackageReference: QFN-20; PackageDescription: 20-Pin Quad-Flat No-Leads Package, Body 4 x 4 mm, Pitch 0.5 mm; Supplier 1: Digi-Key; Supplier Part Number 1: SI5351C-A-GM-ND; Supplier 2: Mouser; Supplier Part Number 2: 634-SI5351C-A-GM; Output Frequency (MHz): 0.008 to 160; Mounting Technology: Surface Mount; Code_JEDEC: MO-220; Code_IPC: J-STD-020; ComponentLink1Description: Manufacturer URL; ComponentLink1URL: http://www.silabs.com/; ComponentLink2Description: Datasheet; ComponentLink2URL: http://www.silabs.com/Support%20Documents/TechnicalDocs/Si5351.pdf; ComponentLink3Description: Package Specification; ComponentLink3URL: http://www.silabs.com/Support%20Documents/TechnicalDocs/Si5351.pdf
footprint SLAB-QFN-20-2700x2700TP_A_N (QFN, 20-Leads, Body 4x4mm, Pitch 0.5mm, Thermal Pad 2.7x2.7mm, IPC Medium Density)
footprint SLAB-QFN-20-2700x2700TP_A_L (QFN, 20-Leads, Body 4x4mm, Pitch 0.5mm, Thermal Pad 2.7x2.7mm, IPC High Density)
footprint SLAB-QFN-20-2700x2700TP_A_M (QFN, 20-Leads, Body 4x4mm, Pitch 0.5mm, Thermal Pad 2.7x2.7mm, IPC Low Density)
pins: 1 XA (in) "Input pin for external crystal.", 2 XB "Input pin for external crystal.", 3 INTR (oc) "Interrupt pin. Open drain active low output, requires a pull-up resistor greater than 1 k ohm.", 4 SCL (in) "I2C bus serial clock input. Pull-up to VDD core with 1 k ohm.", 5 SDA (io) "I2C bus serial data input. Pull-up to VDD core with 1 k ohm.", 6 CLKIN (in) "PLL clock input.", 7 OEB (in) "Output driver enable. Low = enabled, High = disabled.", 8 CLK3 (hiz) "Output clock 3.", 9 CLK2 (hiz) "Output clock 2.", 10 VDDOB (power) "Output voltage supply pin for CLK2 and CLK3. See 6.2", 11 VDDOA (power) "Output voltage supply pin for CLK0 and CLK1. See 6.2", 12 CLK1 (hiz) "Output clock 1.", 13 CLK0 (hiz) "Output clock 0.", 14 VDDOD (power) "Output voltage supply pin for CLK6 and CLK7. See 6.2", 15 CLK7 (hiz) "Output clock 7.", 16 CLK6 (hiz) "Output clock 6.", 17 CLK5 (hiz) "Output clock 5.", 18 VDDOC (power) "Output voltage supply pin for CLK4 and CLK5. See 6.2", 19 CLK4 (hiz) "Output clock 4.", 20 VDD (power) "Core voltage supply pin", 21 GND (power) "Ground."

## Si5351C-A-GU
designator U?
I2C-Programmable Any-Frequency CMOS Clock Generator + VCXO, 2.5 / 3.3 V, 0.008 to 160 MHz Output, -40 to 85 degC, 24-pin SOP; Manufacturer: Silicon Labs; PartNumber: Si5351C-A-GU; Output Format: LVCMOS; Reference Inputs: 2; VDD: 2.5 V; 3.3 V; Sub-Family: Clock Generators; DatasheetVersion: Rev. 0.95; PackageReference: QSOP-24; PackageDescription: 24-Pin Quarter-Size Small-Outline Package, Body 8.65 x 3.9 mm, Pitch 0.635 mm; Supplier 1: Digi-Key; Supplier Part Number 1: SI5351C-A-GU-ND; Supplier 2: Mouser; Supplier Part Number 2: 634-SI5351C-A-GU; Output Frequency (MHz): 0.008 to 160; Mounting Technology: Surface Mount; Code_JEDEC: MO-147; Code_IPC: J-STD-020; ComponentLink1Description: Manufacturer URL; ComponentLink1URL: http://www.silabs.com/; ComponentLink2Description: Datasheet; ComponentLink2URL: http://www.silabs.com/Support%20Documents/TechnicalDocs/Si5351.pdf; ComponentLink3Description: Package Specification; ComponentLink3URL: http://www.silabs.com/Support%20Documents/TechnicalDocs/C8051F99x.pdf
footprint SLAB-QSOP-24_N (SOP, 24-Leads, Body 8.65x3.9mm, Pitch 0.635mm, IPC Medium Density)
footprint SLAB-QSOP-24_L (SOP, 24-Leads, Body 8.65x3.9mm, Pitch 0.635mm, IPC High Density)
footprint SLAB-QSOP-24_M (SOP, 24-Leads, Body 8.65x3.9mm, Pitch 0.635mm, IPC Low Density)
pins: 1 CLK5 (hiz) "Output clock 5.", 2 VDDOC (power) "Output voltage supply pin for CLK4 and CLK5. See 6.2", 3 CLK4 (hiz) "Output clock 4.", 4 VDD (power) "Core voltage supply pin", 5 GND (power) "Ground.", 6 XA (in) "Input pin for external crystal.", 7 XB "Input pin for external crystal.", 8 GND (power) "Ground.", 9 INTR (oc) "Interrupt pin. Open drain active low output, requires a pull-up resistor greater than 1 k ohm.", 10 SCL (in) "I2C bus serial clock input. Pull-up to VDD core with 1 k ohm.", 11 SDA (io) "I2C bus serial data input. Pull-up to VDD core with 1 k ohm.", 12 CLKIN (in) "PLL clock input.", 13 OEB (in) "Output driver enable. Low = enabled, High = disabled.", 14 CLK3 (hiz) "Output clock 3.", 15 CLK2 (hiz) "Output clock 2.", 16 VDDOB (power) "Output voltage supply pin for CLK2 and CLK3. See 6.2", 17 GND (power) "Ground.", 18 VDDOA (power) "Output voltage supply pin for CLK0 and CLK1. See 6.2", 19 GND (power) "Ground.", 20 CLK1 (hiz) "Output clock 1.", 21 CLK0 (hiz) "Output clock 0.", 22 VDDOD (power) "Output voltage supply pin for CLK6 and CLK7. See 6.2", 23 CLK7 (hiz) "Output clock 7.", 24 CLK6 (hiz) "Output clock 6."

## Si5351C-B-GM
designator U?
I2C-Programmable Any-Frequency CMOS Clock Generator + VCXO, 2.5 / 3.3 V, 0.008 to 160 MHz Output, -40 to 85 degC, 20-pin QFN; Manufacturer: Silicon Labs; PartNumber: Si5351C-B-GM; Output Format: LVCMOS; Reference Inputs: 2; VDD: 2.5 V; 3.3 V; Sub-Family: Clock Generators; DatasheetVersion: Rev. 0.95; PackageReference: QFN-20; PackageDescription: 20-Pin Quad-Flat No-Leads Package, Body 4 x 4 mm, Pitch 0.5 mm; Supplier 1: Digi-Key; Supplier Part Number 1: 336-2402-5-ND; Supplier 2: Mouser; Supplier Part Number 2: 634-SI5351C-B-GM; Output Frequency (MHz): 0.008 to 160; Mounting Technology: Surface Mount; Code_JEDEC: MO-220; Code_IPC: J-STD-020; ComponentLink1Description: Manufacturer URL; ComponentLink1URL: http://www.silabs.com/; ComponentLink2Description: Datasheet; ComponentLink2URL: http://www.silabs.com/Support%20Documents/TechnicalDocs/Si5351.pdf; ComponentLink3Description: Package Specification; ComponentLink3URL: http://www.silabs.com/Support%20Documents/TechnicalDocs/Si5351.pdf
footprint SLAB-QFN-20-2700x2700TP_A_N (QFN, 20-Leads, Body 4x4mm, Pitch 0.5mm, Thermal Pad 2.7x2.7mm, IPC Medium Density)
footprint SLAB-QFN-20-2700x2700TP_A_L (QFN, 20-Leads, Body 4x4mm, Pitch 0.5mm, Thermal Pad 2.7x2.7mm, IPC High Density)
footprint SLAB-QFN-20-2700x2700TP_A_M (QFN, 20-Leads, Body 4x4mm, Pitch 0.5mm, Thermal Pad 2.7x2.7mm, IPC Low Density)
pins: 1 XA (in) "Input pin for external crystal.", 2 XB "Input pin for external crystal.", 3 INTR (oc) "Interrupt pin. Open drain active low output, requires a pull-up resistor greater than 1 k ohm.", 4 SCL (in) "I2C bus serial clock input. Pull-up to VDD core with 1 k ohm.", 5 SDA (io) "I2C bus serial data input. Pull-up to VDD core with 1 k ohm.", 6 CLKIN (in) "PLL clock input.", 7 OEB (in) "Output driver enable. Low = enabled, High = disabled.", 8 CLK3 (hiz) "Output clock 3.", 9 CLK2 (hiz) "Output clock 2.", 10 VDDOB (power) "Output voltage supply pin for CLK2 and CLK3. See 6.2", 11 VDDOA (power) "Output voltage supply pin for CLK0 and CLK1. See 6.2", 12 CLK1 (hiz) "Output clock 1.", 13 CLK0 (hiz) "Output clock 0.", 14 VDDOD (power) "Output voltage supply pin for CLK6 and CLK7. See 6.2", 15 CLK7 (hiz) "Output clock 7.", 16 CLK6 (hiz) "Output clock 6.", 17 CLK5 (hiz) "Output clock 5.", 18 VDDOC (power) "Output voltage supply pin for CLK4 and CLK5. See 6.2", 19 CLK4 (hiz) "Output clock 4.", 20 VDD (power) "Core voltage supply pin", 21 GND (power) "Ground."

## Si5355
designator U?
Quad Frequency 8-Output Clock Generator, 1.8 / 2.5 / 3 V, 1 to 200 MHz Output, -40 to 85 degC, 24-pin QFN; Manufacturer: Silicon Labs; PartNumber: Si5355; Output Format: LVCMOS; Output Frequency (MHz): 1 to 200; Reference Inputs: 1; VDD: 1.8 V; 2.5 V; 3.3 V; Sub-Family: Clock Generators; DatasheetVersion: Rev. 1.1; PackageReference: QFN-24; PackageDescription: 24-Pin Quad-Flat No-Leads Package, Body 4 x 4 mm, Pitch 0.5 mm; Mounting Technology: Surface Mount; Code_JEDEC: MO-220; Code_IPC: J-STD-020; ComponentLink1Description: Manufacturer URL; ComponentLink1URL: http://www.silabs.com/; ComponentLink2Description: Datasheet; ComponentLink2URL: http://www.silabs.com/Support%20Documents/TechnicalDocs/Si5355.pdf; ComponentLink3Description: Package Specification; ComponentLink3URL: http://www.silabs.com/Support%20Documents/TechnicalDocs/Si5330.pdf
footprint SLAB-QFN-24-2500x2500TP_N (QFN, 24-Leads, Body 4x4mm, Pitch 0.5mm, Thermal Pad 2.5x2.5mm, IPC Medium Density)
footprint SLAB-QFN-24-2500x2500TP_L (QFN, 24-Leads, Body 4x4mm, Pitch 0.5mm, Thermal Pad 2.5x2.5mm, IPC High Density)
footprint SLAB-QFN-24-2500x2500TP_M (QFN, 24-Leads, Body 4x4mm, Pitch 0.5mm, Thermal Pad 2.5x2.5mm, IPC Low Density)
pins: 1 XA "External Crystal.", 2 XB "External Crystal.", 3 P1 (in) "Multi-Function Input (3.3 V Tolerant).", 4 CLKIN (in) "Single-Ended Input Clock.", 5 P4 (in) "Multi-Function Input.", 6 P5 (in) "Multi-Function Input.", 7 VDD (power) "Core Supply Voltage.", 8 LOS (oc) "Loss of Signal.", 9 CLK7 (out) "Output Clock 7.", 10 CLK6 (out) "Output Clock 6.", 11 VDDOD (power) "Clock Output Bank D Supply Voltage.", 12 P2 (in) "Multi-Function Input (3.3 V Tolerant).", 13 CLK5 (out) "Output Clock 5.", 14 CLK4 (out) "Output Clock 4.", 15 VDDOC (power) "Clock Output Bank C Supply Voltage.", 16 VDDOB (power) "Clock Output Bank B Supply Voltage.", 17 CLK3 (out) "Output Clock 3.", 18 CLK2 (out) "Output Clock 2.", 19 P3 (in) "Multi-Function Input (3.3 V Tolerant).", 20 VDDOA (power) "Clock Output Bank A Supply Voltage.", 21 CLK1 (out) "Output Clock 1.", 22 CLK0 (out) "Output Clock 0.", 23 GND (power) "Ground.", 24 VDD (power) "Core Supply Voltage.", 25 GND (power) "Ground Pad."

## Si5355A-B00011-GM
designator U?
Any-Frequency Quad Frequency 8-Output Clock Generator, 1.8 / 2.5 / 3.3 V, 1 to 200 MHz Output, -40 to 85 degC, 24-pin QFN, Tray; Manufacturer: Silicon Labs; PartNumber: Si5355A-B00011-GM; Output Format: LVCMOS; Output Frequency (MHz): 1 to 200; Reference Inputs: 1; VDD: 1.8 V; 2.5 V; 3.3 V; Sub-Family: Clock Generators part2; DatasheetVersion: Rev. 1.1; PackageReference: QFN-24; PackageDescription: 24-Pin Quad-Flat No-Leads Package, Body 4 x 4 mm, Pitch 0.5 mm; Supplier 1: Mouser; Supplier Part Number 1: 634-SI5355AB00011-GM; Mounting Technology: Surface Mount; Code_JEDEC: MO-220; Code_IPC: J-STD-020; ComponentLink1Description: Manufacturer URL; ComponentLink1URL: http://www.silabs.com/; ComponentLink2Description: Datasheet; ComponentLink2URL: http://www.silabs.com/Support%20Documents/TechnicalDocs/Si5355.pdf; ComponentLink3Description: Package Specification; ComponentLink3URL: http://www.silabs.com/Support%20Documents/TechnicalDocs/Si5330.pdf
footprint SLAB-QFN-24-2500x2500TP_N (QFN, 24-Leads, Body 4x4mm, Pitch 0.5mm, Thermal Pad 2.5x2.5mm, IPC Medium Density)
footprint SLAB-QFN-24-2500x2500TP_L (QFN, 24-Leads, Body 4x4mm, Pitch 0.5mm, Thermal Pad 2.5x2.5mm, IPC High Density)
footprint SLAB-QFN-24-2500x2500TP_M (QFN, 24-Leads, Body 4x4mm, Pitch 0.5mm, Thermal Pad 2.5x2.5mm, IPC Low Density)
pins: 1 XA "External Crystal.", 2 XB "External Crystal.", 3 P1 (in) "Multi-Function Input (3.3 V Tolerant).", 4 CLKIN (in) "Single-Ended Input Clock.", 5 P4 (in) "Multi-Function Input.", 6 P5 (in) "Multi-Function Input.", 7 VDD (power) "Core Supply Voltage.", 8 LOS (oc) "Loss of Signal.", 9 CLK7 (out) "Output Clock 7.", 10 CLK6 (out) "Output Clock 6.", 11 VDDOD (power) "Clock Output Bank D Supply Voltage.", 12 P2 (in) "Multi-Function Input (3.3 V Tolerant).", 13 CLK5 (out) "Output Clock 5.", 14 CLK4 (out) "Output Clock 4.", 15 VDDOC (power) "Clock Output Bank C Supply Voltage.", 16 VDDOB (power) "Clock Output Bank B Supply Voltage.", 17 CLK3 (out) "Output Clock 3.", 18 CLK2 (out) "Output Clock 2.", 19 P3 (in) "Multi-Function Input (3.3 V Tolerant).", 20 VDDOA (power) "Clock Output Bank A Supply Voltage.", 21 CLK1 (out) "Output Clock 1.", 22 CLK0 (out) "Output Clock 0.", 23 GND (power) "Ground.", 24 VDD (power) "Core Supply Voltage.", 25 GND (power) "Ground Pad."

## Si5355A-B00021-GM
designator U?
Any-Frequency Quad Frequency 8-Output Clock Generator, 1.8 / 2.5 / 3.3 V, 1 to 200 MHz Output, -40 to 85 degC, 24-pin QFN, Tray; Manufacturer: Silicon Labs; PartNumber: Si5355A-B00021-GM; Output Format: LVCMOS; Output Frequency (MHz): 1 to 200; Reference Inputs: 1; VDD: 1.8 V; 2.5 V; 3.3 V; Sub-Family: Clock Generators part2; DatasheetVersion: Rev. 1.1; PackageReference: QFN-24; PackageDescription: 24-Pin Quad-Flat No-Leads Package, Body 4 x 4 mm, Pitch 0.5 mm; Supplier 1: Mouser; Supplier Part Number 1: 634-SI5355AB00021-GM; Mounting Technology: Surface Mount; Code_JEDEC: MO-220; Code_IPC: J-STD-020; ComponentLink1Description: Manufacturer URL; ComponentLink1URL: http://www.silabs.com/; ComponentLink2Description: Datasheet; ComponentLink2URL: http://www.silabs.com/Support%20Documents/TechnicalDocs/Si5355.pdf; ComponentLink3Description: Package Specification; ComponentLink3URL: http://www.silabs.com/Support%20Documents/TechnicalDocs/Si5330.pdf
footprint SLAB-QFN-24-2500x2500TP_N (QFN, 24-Leads, Body 4x4mm, Pitch 0.5mm, Thermal Pad 2.5x2.5mm, IPC Medium Density)
footprint SLAB-QFN-24-2500x2500TP_L (QFN, 24-Leads, Body 4x4mm, Pitch 0.5mm, Thermal Pad 2.5x2.5mm, IPC High Density)
footprint SLAB-QFN-24-2500x2500TP_M (QFN, 24-Leads, Body 4x4mm, Pitch 0.5mm, Thermal Pad 2.5x2.5mm, IPC Low Density)
pins: 1 XA "External Crystal.", 2 XB "External Crystal.", 3 P1 (in) "Multi-Function Input (3.3 V Tolerant).", 4 CLKIN (in) "Single-Ended Input Clock.", 5 P4 (in) "Multi-Function Input.", 6 P5 (in) "Multi-Function Input.", 7 VDD (power) "Core Supply Voltage.", 8 LOS (oc) "Loss of Signal.", 9 CLK7 (out) "Output Clock 7.", 10 CLK6 (out) "Output Clock 6.", 11 VDDOD (power) "Clock Output Bank D Supply Voltage.", 12 P2 (in) "Multi-Function Input (3.3 V Tolerant).", 13 CLK5 (out) "Output Clock 5.", 14 CLK4 (out) "Output Clock 4.", 15 VDDOC (power) "Clock Output Bank C Supply Voltage.", 16 VDDOB (power) "Clock Output Bank B Supply Voltage.", 17 CLK3 (out) "Output Clock 3.", 18 CLK2 (out) "Output Clock 2.", 19 P3 (in) "Multi-Function Input (3.3 V Tolerant).", 20 VDDOA (power) "Clock Output Bank A Supply Voltage.", 21 CLK1 (out) "Output Clock 1.", 22 CLK0 (out) "Output Clock 0.", 23 GND (power) "Ground.", 24 VDD (power) "Core Supply Voltage.", 25 GND (power) "Ground Pad."

## Si5355A-B00026-GM
designator U?
Any-Frequency Quad Frequency 8-Output Clock Generator, 1.8 / 2.5 / 3.3 V, 1 to 200 MHz Output, -40 to 85 degC, 24-pin QFN, Tray; Manufacturer: Silicon Labs; PartNumber: Si5355A-B00026-GM; Output Format: LVCMOS; Output Frequency (MHz): 1 to 200; Reference Inputs: 1; VDD: 1.8 V; 2.5 V; 3.3 V; Sub-Family: Clock Generators part2; DatasheetVersion: Rev. 1.1; PackageReference: QFN-24; PackageDescription: 24-Pin Quad-Flat No-Leads Package, Body 4 x 4 mm, Pitch 0.5 mm; Supplier 1: Mouser; Supplier Part Number 1: 634-SI5355AB00026-GM; Mounting Technology: Surface Mount; Code_JEDEC: MO-220; Code_IPC: J-STD-020; ComponentLink1Description: Manufacturer URL; ComponentLink1URL: http://www.silabs.com/; ComponentLink2Description: Datasheet; ComponentLink2URL: http://www.silabs.com/Support%20Documents/TechnicalDocs/Si5355.pdf; ComponentLink3Description: Package Specification; ComponentLink3URL: http://www.silabs.com/Support%20Documents/TechnicalDocs/Si5330.pdf
footprint SLAB-QFN-24-2500x2500TP_N (QFN, 24-Leads, Body 4x4mm, Pitch 0.5mm, Thermal Pad 2.5x2.5mm, IPC Medium Density)
footprint SLAB-QFN-24-2500x2500TP_L (QFN, 24-Leads, Body 4x4mm, Pitch 0.5mm, Thermal Pad 2.5x2.5mm, IPC High Density)
footprint SLAB-QFN-24-2500x2500TP_M (QFN, 24-Leads, Body 4x4mm, Pitch 0.5mm, Thermal Pad 2.5x2.5mm, IPC Low Density)
pins: 1 XA "External Crystal.", 2 XB "External Crystal.", 3 P1 (in) "Multi-Function Input (3.3 V Tolerant).", 4 CLKIN (in) "Single-Ended Input Clock.", 5 P4 (in) "Multi-Function Input.", 6 P5 (in) "Multi-Function Input.", 7 VDD (power) "Core Supply Voltage.", 8 LOS (oc) "Loss of Signal.", 9 CLK7 (out) "Output Clock 7.", 10 CLK6 (out) "Output Clock 6.", 11 VDDOD (power) "Clock Output Bank D Supply Voltage.", 12 P2 (in) "Multi-Function Input (3.3 V Tolerant).", 13 CLK5 (out) "Output Clock 5.", 14 CLK4 (out) "Output Clock 4.", 15 VDDOC (power) "Clock Output Bank C Supply Voltage.", 16 VDDOB (power) "Clock Output Bank B Supply Voltage.", 17 CLK3 (out) "Output Clock 3.", 18 CLK2 (out) "Output Clock 2.", 19 P3 (in) "Multi-Function Input (3.3 V Tolerant).", 20 VDDOA (power) "Clock Output Bank A Supply Voltage.", 21 CLK1 (out) "Output Clock 1.", 22 CLK0 (out) "Output Clock 0.", 23 GND (power) "Ground.", 24 VDD (power) "Core Supply Voltage.", 25 GND (power) "Ground Pad."

## Si5355A-B00039-GM
designator U?
Any-Frequency Quad Frequency 8-Output Clock Generator, 1.8 / 2.5 / 3.3 V, 1 to 200 MHz Output, -40 to 85 degC, 24-pin QFN, Tray; Manufacturer: Silicon Labs; PartNumber: Si5355A-B00039-GM; Output Format: LVCMOS; Output Frequency (MHz): 1 to 200; Reference Inputs: 1; VDD: 1.8 V; 2.5 V; 3.3 V; Sub-Family: Clock Generators part2; DatasheetVersion: Rev. 1.1; PackageReference: QFN-24; PackageDescription: 24-Pin Quad-Flat No-Leads Package, Body 4 x 4 mm, Pitch 0.5 mm; Supplier 1: Mouser; Supplier Part Number 1: 634-SI5355AB00039-GM; Mounting Technology: Surface Mount; Code_JEDEC: MO-220; Code_IPC: J-STD-020; ComponentLink1Description: Manufacturer URL; ComponentLink1URL: http://www.silabs.com/; ComponentLink2Description: Datasheet; ComponentLink2URL: http://www.silabs.com/Support%20Documents/TechnicalDocs/Si5355.pdf; ComponentLink3Description: Package Specification; ComponentLink3URL: http://www.silabs.com/Support%20Documents/TechnicalDocs/Si5330.pdf
footprint SLAB-QFN-24-2500x2500TP_N (QFN, 24-Leads, Body 4x4mm, Pitch 0.5mm, Thermal Pad 2.5x2.5mm, IPC Medium Density)
footprint SLAB-QFN-24-2500x2500TP_L (QFN, 24-Leads, Body 4x4mm, Pitch 0.5mm, Thermal Pad 2.5x2.5mm, IPC High Density)
footprint SLAB-QFN-24-2500x2500TP_M (QFN, 24-Leads, Body 4x4mm, Pitch 0.5mm, Thermal Pad 2.5x2.5mm, IPC Low Density)
pins: 1 XA "External Crystal.", 2 XB "External Crystal.", 3 P1 (in) "Multi-Function Input (3.3 V Tolerant).", 4 CLKIN (in) "Single-Ended Input Clock.", 5 P4 (in) "Multi-Function Input.", 6 P5 (in) "Multi-Function Input.", 7 VDD (power) "Core Supply Voltage.", 8 LOS (oc) "Loss of Signal.", 9 CLK7 (out) "Output Clock 7.", 10 CLK6 (out) "Output Clock 6.", 11 VDDOD (power) "Clock Output Bank D Supply Voltage.", 12 P2 (in) "Multi-Function Input (3.3 V Tolerant).", 13 CLK5 (out) "Output Clock 5.", 14 CLK4 (out) "Output Clock 4.", 15 VDDOC (power) "Clock Output Bank C Supply Voltage.", 16 VDDOB (power) "Clock Output Bank B Supply Voltage.", 17 CLK3 (out) "Output Clock 3.", 18 CLK2 (out) "Output Clock 2.", 19 P3 (in) "Multi-Function Input (3.3 V Tolerant).", 20 VDDOA (power) "Clock Output Bank A Supply Voltage.", 21 CLK1 (out) "Output Clock 1.", 22 CLK0 (out) "Output Clock 0.", 23 GND (power) "Ground.", 24 VDD (power) "Core Supply Voltage.", 25 GND (power) "Ground Pad."